# EAGLE library part FAB_IMU (library AmandaEagleLibrary)
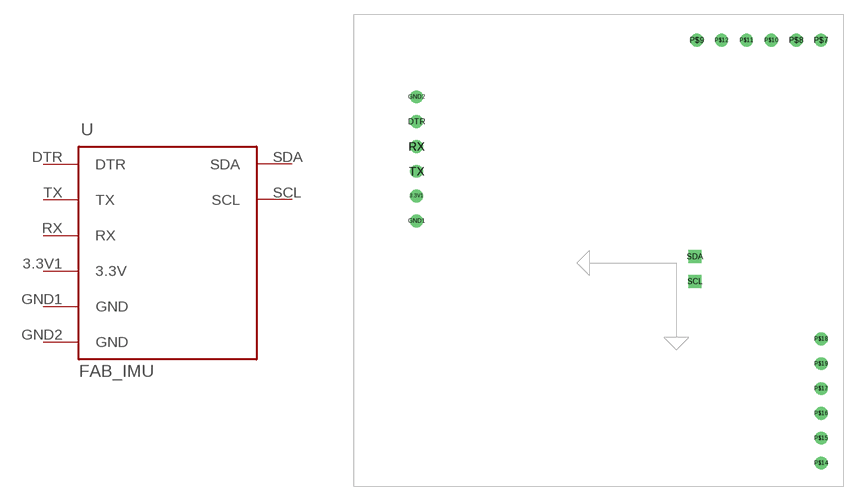
[diagram p0: symbol with the pads of FAB_IMU; footprint FAB_IMU]

Designator prefix -

## FAB_IMU-TH  [FAB_IMU]
3.3V1  3.3V
DTR  DTR
GND1  GND
GND2  GND
RX  RX
SCL  SCL
SDA  SDA
TX  TX

## Footprint FAB_IMU (pad centres in mm)
drill 0.8: 3.3V1 6.46,29.69; DTR 6.46,37.31; GND1 6.46,27.15; GND2 6.46,39.85; P$7 47.827,45.644; P$8 45.287,45.644; P$9 35.127,45.644; P$10 42.747,45.644; P$11 40.207,45.644; P$12 37.667,45.644; P$14 47.846,2.378; P$15 47.846,4.918; P$16 47.846,7.458; P$17 47.846,9.998; P$18 47.846,15.078; P$19 47.846,12.538; RX 6.46,34.77; TX 6.46,32.23
drill 0.8 square: SCL 34.925,20.955; SDA 34.925,23.495